# Altium schematic symbol library con-lsta.SCHLIB: 1 symbol
Pins are listed as number, name and electrical type; pins without a type are passive.

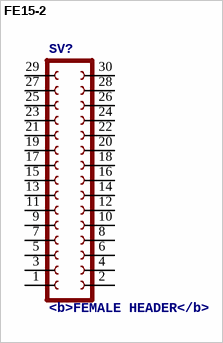
[diagram p0: symbol FE15-2]

## FE15-2
designator SV?, comment <b>FEMALE HEADER</b>
OC_FARNELL: unknown; OC_NEWARK: unknown
footprint FE15-2
pins: 1, 2, 3, 4, 5, 6, 7, 8, 9, 10, 11, 12, 13, 14, 15, 16, 17, 18, 19, 20, 21, 22, 23, 24, 25, 26, 27, 28, 29, 30